# Altium footprint library PcbLib1.PcbLib: 1 footprints
Each footprint in its own frame and in the unit in brackets; x right, y up, seen from the top. Pads: shape width x height; smd on the part's side, far side on the other; paste and mask are expansions set on the pad; w line width, h text height; cw(c..) or ccw(c..) is an arc to the next point about the centre after c.
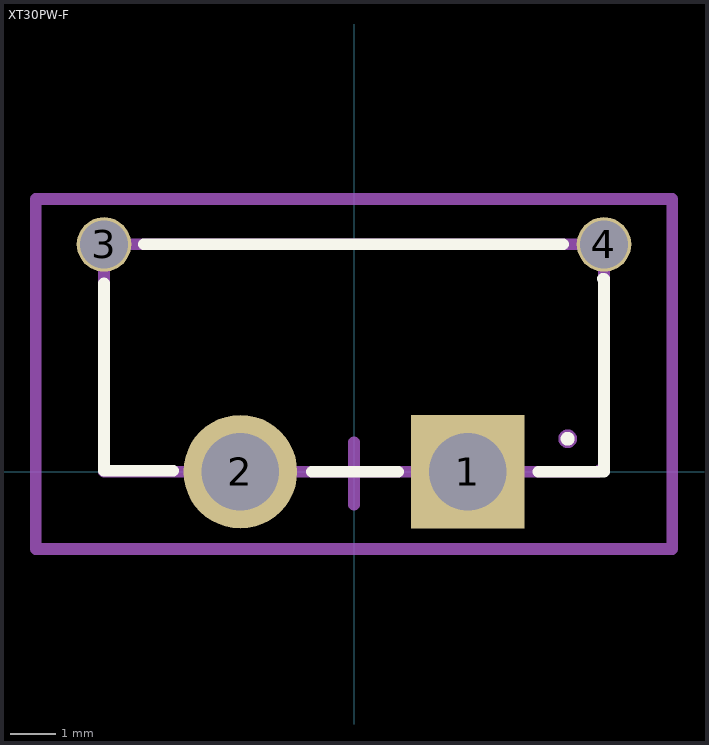
[diagram p0: the footprint, top view; thin cyan lines are the x and y axes]

## XT30PW-F [mm]
pads (4):
  rect 2.5x2.5 hole 1.7: 1(2.5,0)
  round 2.5 hole 1.7: 2(-2.5,0)
  round 1.2 hole 1.05: 3(-5.5,5) 4(5.5,5)
Top Overlay:
  circle w0.254: c4.7,0.725 r0.025
  lines w0.254: -5.5,4.15 -5.5,0.025 -3.975,0.025 ; -4.625,5 4.6,5 ; -0.925,0 0.975,0 ; 4.05,0 5.5,0 5.5,4.25 5.475,4.25
Top Assembly:
  circle w0.254: c4.7,0.725 r0.078
  lines w0.254: -5.5,0 -5.5,5 5.5,5 5.5,0.125 5.375,0 -2.5,0 -5.5,0
Top Courtyard:
  lines w0.254: -7,-1.7 -7,0.075 -7,5 -7,6 -5.5,6 5.475,6 7,6 7,5 7,0.075 7,-1.7 5.475,-1.7 -5.5,-1.7 -7,-1.7
Top Component Center:
  lines w0.254: -0.725,0 0.725,0 ; 0,-0.725 0,0.65